# Altium schematic symbol library LDO.SchLib: 1 symbol
Pins are listed as number, name and electrical type; pins without a type are passive.

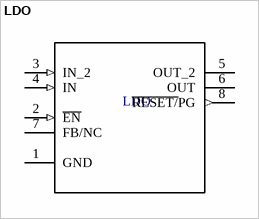
[diagram p0: symbol LDO]

## LDO
designator LDO  (value not drawn)
IC REG LINEAR 3.3V 750MA 8SOIC; Manufacturer: Texas Instruments; Manufacturer Part Number: TPS77833D; DigiKeyURL: https://www.digikey.com/product-detail/en/texas-instruments/TPS77833D/296-2792-5-ND/306665; Digi-Key Part Number: 296-2792-5-ND; Snapeda_Url: https://www.snapeda.com/parts/TPS77833D/Texas%20Instruments/view-part/?ref=search&t=TPS77833D
footprint LDO
pins: 1 GND, 2 ~{EN} (in), 3 IN_2 (in), 4 IN (in), 5 OUT_2 (power), 6 OUT (power), 7 FB/NC, 8 ~{RESET/}PG (out)